# Altium schematic symbol library First Board IMX6.SchLib: 153 symbols (part 2 of 2)
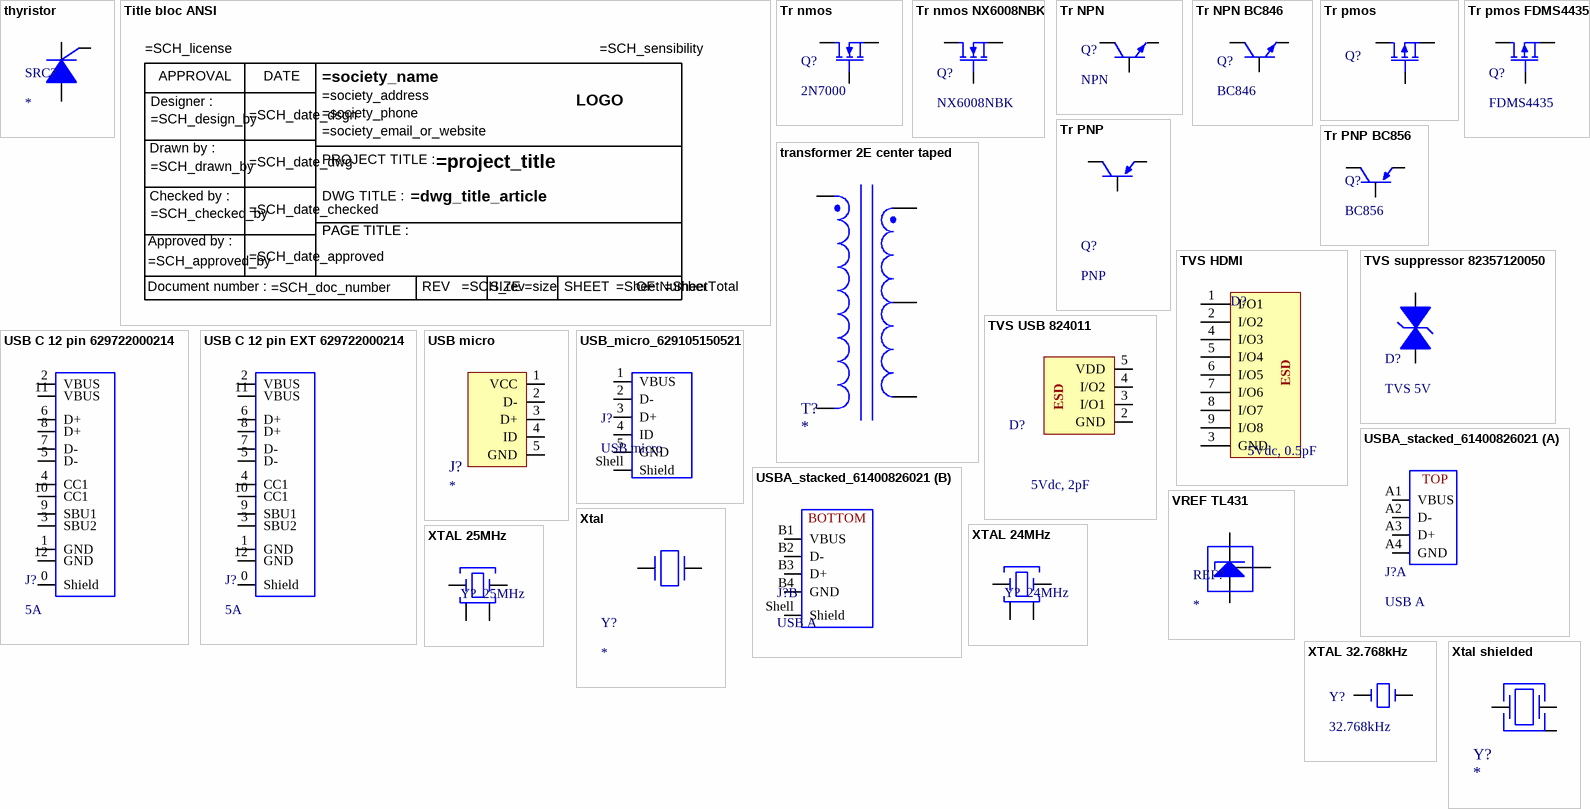
[diagram p8: symbols thyristor to Xtal shielded]

## TVS HDMI
designator D?, comment 5Vdc, 0.5pF
WE-TVS TVS Diode – Super Speed Series, DFN3810-9L, 8 Channel, 5Vdc, 0.5pF 824014885; Manufacturer: Wurth Elektronik; Reverse Peak Pulse Current: 5A; Channel ESD Clamping Voltage: 10.5V; Channel Number: 8; Channel Operating Voltage: 5V; Channel Reverse Leakage Current: 1uA; ESD Air Discharge Capability: 15kV; Polarity: Unidirectional; Reverse Breakdown Voltage: 6V; ComponentLink1Description: Manufacturer Link; ComponentLink1URL: http://www.we-online.de; ComponentLink2Description: Datasheet; ComponentLink2URL: https://www.we-online.com/catalog/datasheet/824014885.pdf; Manufacturer Part Number: 824014885; Size: DFN3810-9L; Mounting Technology: SMT; Packaging: Tape and Reel; Channel Input Capacitance: 0.5pF; ESD Contact Discharge Capability: 15kV; Height: 0.5mm; Length: 3.8mm; Operating Temperature max.: 85C; Operating Temperature min.: -55C; Width: 1mm
footprint TVS 8 pin
pins: 1 I/O1, 2 I/O2, 3 GND, 4 I/O3, 5 I/O4, 6 I/O5, 7 I/O6, 8 I/O7, 9 I/O8
text: ESD

## TVS suppressor 82357120050
designator D?, comment TVS 5V
82357120050; ComponentLink1Description: New link; ComponentLink1URL: https://www.we-online.com/catalog/datasheet/82357120050.pdf
footprint inductor 0402/1005
pins: 1, 2

## TVS USB 824011
designator D?, comment 5Vdc, 2pF
WE-TVS TVS Diode – High Speed Series, SOT23-5L, 2+1 Channel, 5Vdc, 2pF; Manufacturer Part Number: 824011; Manufacturer: Wurth Elektronik; Reverse Peak Pulse Current: 13A; Channel ESD Clamping Voltage: 13V; Channel Operating Voltage: 5V; Channel Reverse Leakage Current: 1uA; ESD Air Discharge Capability: 24kV; ESD Contact Discharge Capability: 16kV; Polarity: Unidirectional; Reverse Breakdown Voltage: 6.1V; ComponentLink1Description: Manufacturer Link; ComponentLink1URL: http://www.we-online.de; ComponentLink2Description: Datasheet; ComponentLink2URL: https://www.we-online.com/catalog/datasheet/824011.pdf; Size: SOT23-5L; Mounting Technology: SMT; Packaging: Tape and Reel; Channel Input Capacitance: 2pF; Channel Number: 2+1; Height: 1.16mm; Length: 2.9mm; Operating Temperature max.: 125C; Operating Temperature min.: -55C; Width: 2.8mm
footprint Sot-23-5
pins: 2 GND, 3 I/O1, 4 I/O2, 5 VDD
text: ESD

## USB C 12 pin 629722000214
designator J?, comment 5A
629722000214 wurth connector, up to 5A
footprint USB C 12 PIN 629722000214
pins: 0 Shield, 1 GND, 2 VBUS, 3 SBU2, 4 CC1, 5 D-, 6 D+, 7 D-, 8 D+, 9 SBU1, 10 CC1, 11 VBUS, 12 GND

## USB C 12 pin EXT 629722000214
designator J?, comment 5A
629722000214 wurth connector, up to 5A, with bottom pads for more cables
footprint USB C 12 Pin EXT 629722000214
pins: 0 Shield, 1 GND, 2 VBUS, 3 SBU2, 4 CC1, 5 D-, 6 D+, 7 D-, 8 D+, 9 SBU1, 10 CC1, 11 VBUS, 12 GND

## USB micro
designator J?
footprint USB micro THT 10103594-0001LF
pins: 1 VCC, 2 D-, 3 D+, 4 ID, 5 GND

## USB_micro_629105150521
designator J?, comment USB micro
footprint USB_Micro_629105150521
pins: 1 VBUS, 2 D-, 3 D+, 4 ID, 5 GND, Shell Shield

## USBA_stacked_61400826021
designator J?, comment USB A
2x USB type A, stacked
footprint USBA_stacked_61400826021
part A pins: A1 VBUS, A2 D-, A3 D+, A4 GND
part B pins: B1 VBUS, B2 D-, B3 D+, B4 GND, Shell Shield
part A text: TOP
part B text: BOTTOM

## VREF TL431
designator REF?
ComponentLink1Description: datasheet; ComponentLink1URL: file:///C:/Users/Arame/Documents/altium/Projects/PSU%200-20v%200-2A/datasheet/tl431.pdf
footprint Sot-23-3
pins: 1 K, 2 Vref "internal 2.5V", 3 A

## Xtal
designator Y?
pins: 1 0, 2 1

## XTAL 24MHz
designator Y?, comment 24MHz
WE-XTAL 24MHz, +/-10ppm / 830108212309; Manufacturer: Wurth Elektronik; Load Capacitance: 10pF; ComponentLink2Description: Datasheet; ComponentLink2URL: https://www.we-online.com/catalog/datasheet/830108212309.pdf; Operating Temperature: -20 to +70degC; Packaging: Tape and Reel; Manufacturer Part Number: 830108212309; Published Date: July 2020; Frequency Stability: +/-10ppm; Frequency: 24MHz; Frequency Tolerance: +/-10ppm; Mounting Technology: SMT
footprint IQXC-42 (Quartz Crystal, size IQXC-42, body 2x1.6mm)
pins: 1 Crystal, 2 GND, 3 Crystal, 4 GND

## XTAL 25MHz
designator Y?, comment 25MHz
WE-XTAL, 25MHz, +/-10ppm; Manufacturer Part Number: 830108212509; Manufacturer: Wurth Elektronik; Frequency: 24MHz; Load Capacitance: 10pF; Operating Temperature: -20 to +70degC; Packaging: Tape and Reel; Published Date: July 2020; Frequency Stability: +/-10ppm; Frequency Tolerance: +/-10ppm; Mounting Technology: SMT
footprint IQXC-42 (Quartz Crystal, size IQXC-42, body 2x1.6mm)
pins: 1 Crystal, 2 GND, 3 Crystal, 4 GND

## XTAL 32.768kHz
designator Y?, comment 32.768kHz
WE-XTAL, 25MHz, +/-10ppm 830062558
footprint IQXC-25 (Quartz Crystal, size IQXC-25, body 2x1mm)
pins: 1 Crystal, 2 Crystal

## Xtal shielded
designator Y?
pins: 0 GND, 1, 2